# EAGLE library part CC2591 (library kwoo)
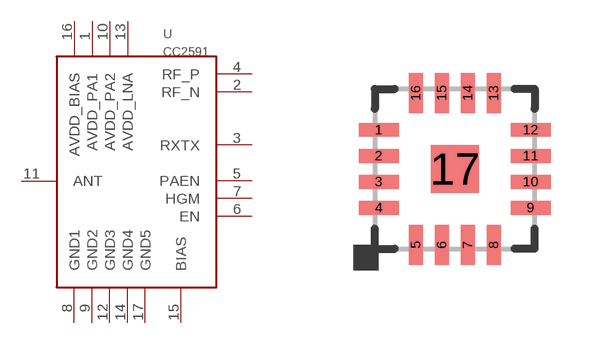
[diagram p16: symbol with the pads of 16-QFN; footprint 16-QFN]

Designator prefix -

## CC2591  [16-QFN]
1  AVDD_PA1
2  RF_N
3  RXTX
4  RF_P
5  PAEN
6  EN
7  HGM
8  GND1
9  GND2
10  AVDD_PA2
11  ANT
12  GND3
13  AVDD_LNA
14  GND4
15  BIAS
16  AVDD_BIAS
17  GND5

## Footprint 16-QFN (pad centres in mm)
smd 1 x 0.35: 1 -1.9,0.975; 2 -1.9,0.325; 3 -1.9,-0.325; 4 -1.9,-0.975; 9 1.9,-0.975; 10 1.9,-0.325; 11 1.9,0.325; 12 1.9,0.975
smd 0.35 x 1: 5 -0.975,-1.9; 6 -0.325,-1.9; 7 0.325,-1.9; 8 0.975,-1.9; 13 0.975,1.9; 14 0.325,1.9; 15 -0.325,1.9; 16 -0.975,1.9
smd 1.2 x 1.2: 17 0,0